# Altium schematic symbol library SamacSys.SchLib: 16 symbols
Pins are listed as number, name and electrical type; pins without a type are passive.

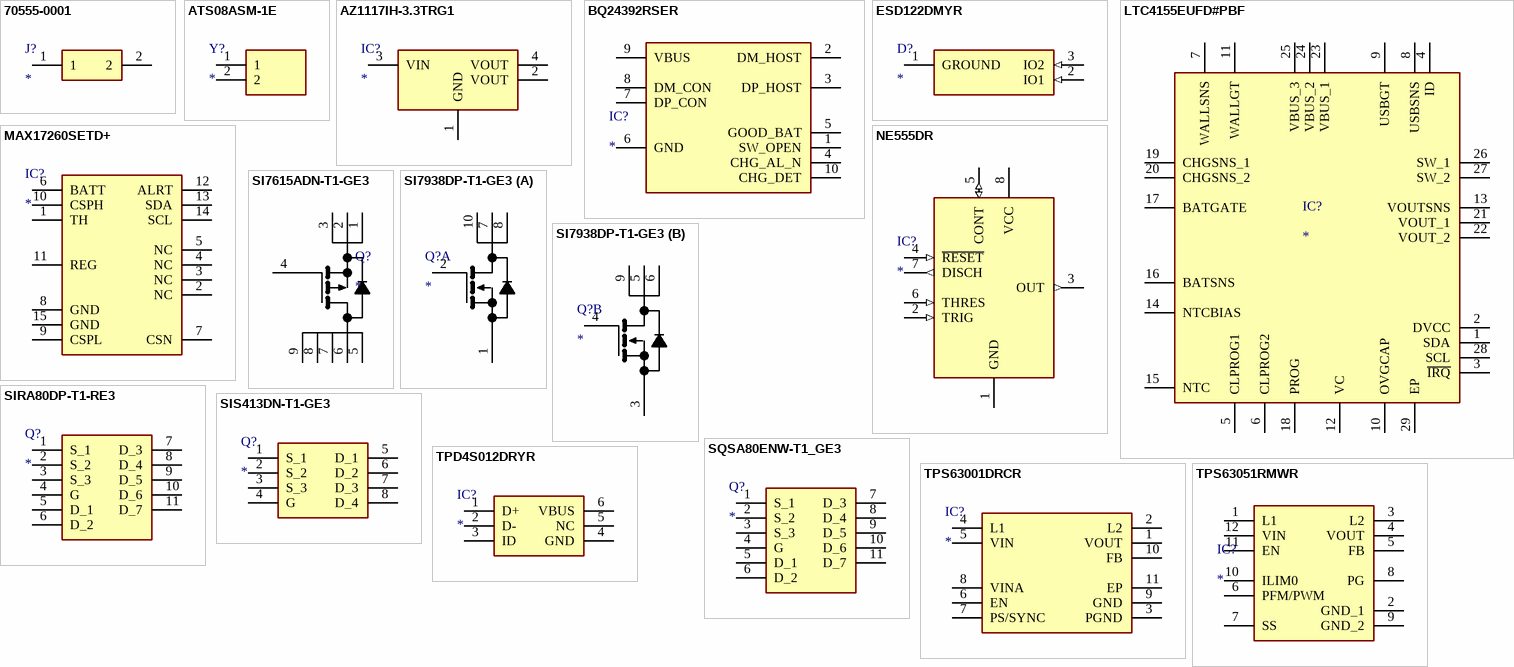
[diagram p0: symbols 70555-0001 to TPS63051RMWR]

## 70555-0001
designator J?
Connector; Manufacturer_Name: Molex; Manufacturer_Part_Number: 70555-0001; Description: CGrid SL Srd Hdr RA 120 TPg Tin 2Ckt; Datasheet Link: https://componentsearchengine.com/Datasheets/1/70555-0001.pdf; Height: 7mm; Mouser2 Part Number: 538-70555-0001; Mouser2 Price/Stock: https://www.mouser.com/Search/Refine.aspx?Keyword=538-70555-0001
footprint 705550001
pins: 1, 2

## ATS08ASM-1E
designator Y?
Crystal or Oscillator; Manufacturer_Name: CTS; Manufacturer_Part_Number: ATS08ASM-1E; Datasheet Link: https://www.ctscorp.com/wp-content/uploads/ATS-ATSSM.pdf; Height: 4.3mm
footprint ATS040SM1
pins: 1, 2

## AZ1117IH-3.3TRG1
designator IC?
Integrated Circuit; Manufacturer_Name: Diodes Inc.; Manufacturer_Part_Number: AZ1117IH-3.3TRG1; Datasheet Link: https://componentsearchengine.com/Datasheets/1/AZ1117IH-3.3TRG1.pdf; Height: 1.7mm; Mouser2 Part Number: 621-AZ1117IH-3.3TRG1; Mouser2 Price/Stock: https://www.mouser.com/Search/Refine.aspx?Keyword=621-AZ1117IH-3.3TRG1
footprint SOT230P700X170-4N
pins: 1 GND, 2 VOUT, 3 VIN, 4 VOUT

## BQ24392RSER
designator IC?
Integrated Circuit; Manufacturer_Name: Texas Instruments; Manufacturer_Part_Number: BQ24392RSER; Datasheet Link: http://www.ti.com/lit/gpn/bq24392; Mouser Part Number: 595-BQ24392RSER; Mouser Price/Stock: https://www.mouser.com/Search/Refine.aspx?Keyword=595-BQ24392RSER; RS Part Number: 8279327; RS Price/Stock: http://uk.rs-online.com/web/p/products/8279327
footprint RSE(R-PUQFN-N10)
pins: 1 SW_OPEN, 2 DM_HOST, 3 DP_HOST, 4 CHG_AL_N, 5 GOOD_BAT, 6 GND, 7 DP_CON, 8 DM_CON, 9 VBUS, 10 CHG_DET

## ESD122DMYR
designator D?
Diode; Manufacturer_Name: Texas Instruments; Manufacturer_Part_Number: ESD122DMYR; Datasheet Link: http://www.ti.com/lit/ds/symlink/esd122.pdf; Mouser2 Part Number: 595-ESD122DMYR; Mouser2 Price/Stock: https://www.mouser.com/Search/Refine.aspx?Keyword=595-ESD122DMYR
footprint DMX0003A
pins: 1 GROUND (power), 2 IO1 (in), 3 IO2 (in)

## LTC4155EUFD#PBF
designator IC?
Integrated Circuit; Manufacturer_Name: Linear Technology; Manufacturer_Part_Number: LTC4155EUFD#PBF; Datasheet Link: http://www.analog.com/media/en/technical-documentation/data-sheets/4155fd.pdf; Height: 0.8mm
footprint QFN50P400X500X80-29N-D
pins: 1 SDA, 2 DVCC, 3 ~{IRQ}, 4 ID, 5 CLPROG1, 6 CLPROG2, 7 WALLSNS, 8 USBSNS, 9 USBGT, 10 OVGCAP, 11 WALLGT, 12 VC, 13 VOUTSNS, 14 NTCBIAS, 15 NTC, 16 BATSNS, 17 BATGATE, 18 PROG, 19 CHGSNS_1, 20 CHGSNS_2, 21 VOUT_1, 22 VOUT_2, 23 VBUS_1, 24 VBUS_2, 25 VBUS_3, 26 SW_1, 27 SW_2, 28 SCL, 29 EP

## MAX17260SETD+
designator IC?
Integrated Circuit; Manufacturer_Name: Maxim Integrated; Manufacturer_Part_Number: MAX17260SETD+; Datasheet Link: https://componentsearchengine.com/Datasheets/1/MAX17260SETD+.pdf; Height: 0.8mm; Mouser2 Part Number: 700-MAX17260SETD+; Mouser2 Price/Stock: https://www.mouser.com/Search/Refine.aspx?Keyword=700-MAX17260SETD%2B
footprint SON40P300X300X80-15N
pins: 1 TH, 2 NC, 3 NC, 4 NC, 5 NC, 6 BATT, 7 CSN, 8 GND, 9 CSPL, 10 CSPH, 11 REG, 12 ALRT, 13 SDA, 14 SCL, 15 GND

## NE555DR
designator IC?
Integrated Circuit; Manufacturer_Name: Texas Instruments; Manufacturer_Part_Number: NE555DR; Datasheet Link: http://www.ti.com/lit/ds/symlink/ne555.pdf; Height: 1.75mm; Mouser Part Number: 595-NE555DR; Mouser Price/Stock: https://www.mouser.com/Search/Refine.aspx?Keyword=595-NE555DR; RS Part Number: 1218414; RS Price/Stock: http://uk.rs-online.com/web/p/products/1218414
footprint SOIC127P600X175-8N
pins: 1 GND (power), 2 TRIG (in), 3 OUT (out), 4 ~{RESET} (in), 5 CONT (io), 6 THRES (in), 7 DISCH (out), 8 VCC (power)

## SI7615ADN-T1-GE3
designator Q?
MOSFET (P-Channel); Manufacturer_Name: Vishay; Manufacturer_Part_Number: SIS413DN-T1-GE3; ComponentLink1Description: Mouser; ComponentLink1URL: https://pl.mouser.com/ProductDetail/Vishay-Siliconix/SI7615ADN-T1-GE3?qs=sGAEpiMZZMshyDBzk1%2FWi6E1PdrpaYNpUmwK%2FZj1bgw%3D; ComponentLink2Description: Datasheet; ComponentLink2URL: https://pl.mouser.com/datasheet/2/427/si7615cdn-1018932.pdf
footprint PowerPAK1212-8 Single
pins: 1 S, 2 S, 3 S, 4 G, 5 D, 6 D, 7 D, 8 D, 9 D

## SI7938DP-T1-GE3
designator Q?
MOSFET (N-Channel); Manufacturer_Name: Vishay; Manufacturer_Part_Number: SI7938DP-T1-GE3; Datasheet Link: https://www.vishay.com/docs/65365/si7938dp.pdf
footprint POWERPAK-SO8_1
part A pins: 1 S1, 2 G1, 7 D1_1, 8 D1_2, 10 D1_3
part B pins: 3 S2, 4 G2, 5 D2_1, 6 D2_2, 9 D2_3

## SIRA80DP-T1-RE3
designator Q?
MOSFET (N-Channel); Manufacturer_Name: Vishay; Manufacturer_Part_Number: SIRA80DP-T1-RE3; Datasheet Link: https://componentsearchengine.com/Datasheets/1/SIRA80DP-T1-RE3.pdf; Height: 1.12mm; Mouser2 Part Number: 78-SIRA80DP-T1-RE3; Mouser2 Price/Stock: https://www.mouser.com/Search/Refine.aspx?Keyword=78-SIRA80DP-T1-RE3
footprint SI7852ADPT1GE3
pins: 1 S_1, 2 S_2, 3 S_3, 4 G, 5 D_1, 6 D_2, 7 D_3, 8 D_4, 9 D_5, 10 D_6, 11 D_7

## SIS413DN-T1-GE3
designator Q?
MOSFET (P-Channel); Manufacturer_Name: Vishay; Manufacturer_Part_Number: SIS413DN-T1-GE3
footprint PowerPAK1212-8 Single
pins: 1 S_1, 2 S_2, 3 S_3, 4 G, 5 D_1, 6 D_2, 7 D_3, 8 D_4

## SQSA80ENW-T1_GE3
designator Q?
MOSFET (N-Channel); Manufacturer_Name: Vishay; Manufacturer_Part_Number: SQSA80ENW-T1_GE3; Datasheet Link: https://www.vishay.com/docs/66501/sqsa80enw.pdf; Height: 1.12mm
footprint SQSA80ENWT1_GE3
pins: 1 S_1, 2 S_2, 3 S_3, 4 G, 5 D_1, 6 D_2, 7 D_3, 8 D_4, 9 D_5, 10 D_6, 11 D_7

## TPD4S012DRYR
designator IC?
Integrated Circuit; Manufacturer_Name: Texas Instruments; Manufacturer_Part_Number: TPD4S012DRYR; Datasheet Link: http://www.ti.com/lit/ds/symlink/tpd4s012.pdf; Height: 0.6mm; Mouser2 Part Number: 595-TPD4S012DRYR; Mouser2 Price/Stock: https://www.mouser.com/Search/Refine.aspx?Keyword=595-TPD4S012DRYR
footprint SON50P100X145X60-6N
pins: 1 D+, 2 D-, 3 ID, 4 GND (power), 5 NC, 6 VBUS

## TPS63001DRCR
designator IC?
Integrated Circuit; Manufacturer_Name: Texas Instruments; Manufacturer_Part_Number: TPS63001DRCR; Datasheet Link: http://www.ti.com/lit/gpn/tps63001; Height: 1mm; Mouser2 Part Number: 595-TPS63001DRCR; Mouser2 Price/Stock: https://www.mouser.com/Search/Refine.aspx?Keyword=595-TPS63001DRCR
footprint SON50P300X300X100-11N-D
pins: 1 VOUT, 2 L2, 3 PGND, 4 L1, 5 VIN, 6 EN, 7 PS/SYNC, 8 VINA, 9 GND, 10 FB, 11 EP

## TPS63051RMWR
designator IC?
Integrated Circuit; Manufacturer_Name: Texas Instruments; Manufacturer_Part_Number: TPS63051RMWR; Datasheet Link: http://www.ti.com/lit/gpn/tps63051; Height: 1mm
footprint QFN50P250X250X100-12N-D
pins: 1 L1, 2 GND_1, 3 L2, 4 VOUT, 5 FB, 6 PFM/PWM, 7 SS, 8 PG, 9 GND_2, 10 ILIM0, 11 EN, 12 VIN